# EAGLE library part ADL5390_ADL5390 (library ADL5390board)
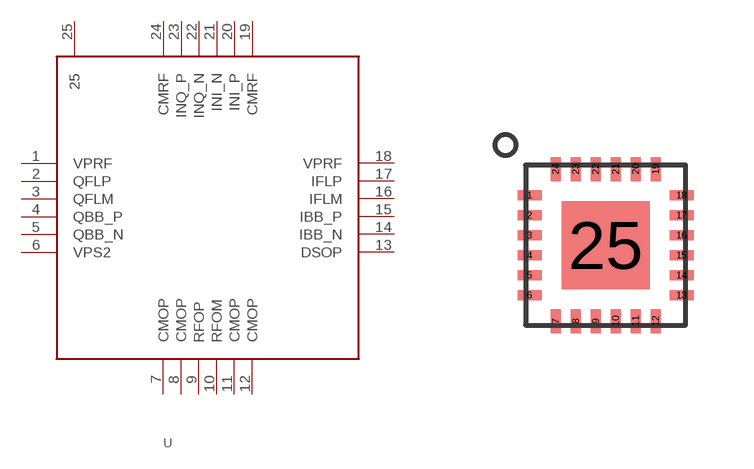
[diagram p0: symbol with the pads of ADL5390_ADL5390; footprint ADL5390_ADL5390]

Designator prefix -

## ADL5390_ADL5390  [ADL5390_ADL5390]
1  VPRF
2  QFLP
3  QFLM
4  QBB_P
5  QBB_N
6  VPS2
7  CMOP
8  CMOP
9  RFOP
10  RFOM
11  CMOP
12  CMOP
13  DSOP
14  IBB_N
15  IBB_P
16  IFLM
17  IFLP
18  VPRF
19  CMRF
20  INI_P
21  INI_N
22  INQ_N
23  INQ_P
24  CMRF
25  25

## Footprint ADL5390_ADL5390 (pad centres in mm)
smd 0.6 x 0.25: 1 -1.9,1.25; 2 -1.9,0.75; 3 -1.9,0.25; 4 -1.9,-0.25; 5 -1.9,-0.75; 6 -1.9,-1.25; 13 1.9,-1.25; 14 1.9,-0.75; 15 1.9,-0.25; 16 1.9,0.25; 17 1.9,0.75; 18 1.9,1.25
smd 0.25 x 0.6: 7 -1.25,-1.9; 8 -0.75,-1.9; 9 -0.25,-1.9; 10 0.25,-1.9; 11 0.75,-1.9; 12 1.25,-1.9; 19 1.25,1.9; 20 0.75,1.9; 21 0.25,1.9; 22 -0.25,1.9; 23 -0.75,1.9; 24 -1.25,1.9
smd 2.2 x 2.2: 25 0,0